# EAGLE library part MMA8652/3 (library everykey)
NXP/Freescale 3 axis accelerometers, I2C. MMA8652 is higher resolution than MMA8653.
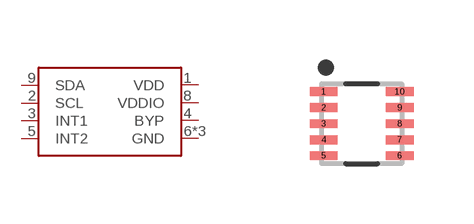
[diagram p23: symbol with the pads of DFN10-0.4; footprint DFN10-0.4]

Designator prefix -

## MMA8652/3  [DFN10-0.4]
1  VDD  pwr
2  SCL
3  INT1
4  BYP
5  INT2
6  GND  pwr
7  GND  pwr
8  VDDIO  pwr
9  SDA
10  GND  pwr

## Footprint DFN10-0.4 (pad centres in mm)
10-pin DFN package, 0.4mm pitch. Pads slightly extended outwards for better manual soldering.
smd 0.7 x 0.225: 1 -0.95,0.8; 2 -0.95,0.4; 3 -0.95,0; 4 -0.95,-0.4; 5 -0.95,-0.8; 6 0.95,-0.8; 7 0.95,-0.4; 8 0.95,0; 9 0.95,0.4; 10 0.95,0.8